# Altium footprint library TPS259460ARPWR_TPS2590.PcbLib: 1 footprints
Each footprint in its own frame and in the unit in brackets; x right, y up, seen from the top. Pads: shape width x height; smd on the part's side, far side on the other; paste and mask are expansions set on the pad; w line width, h text height; cw(c..) or ccw(c..) is an arc to the next point about the centre after c.
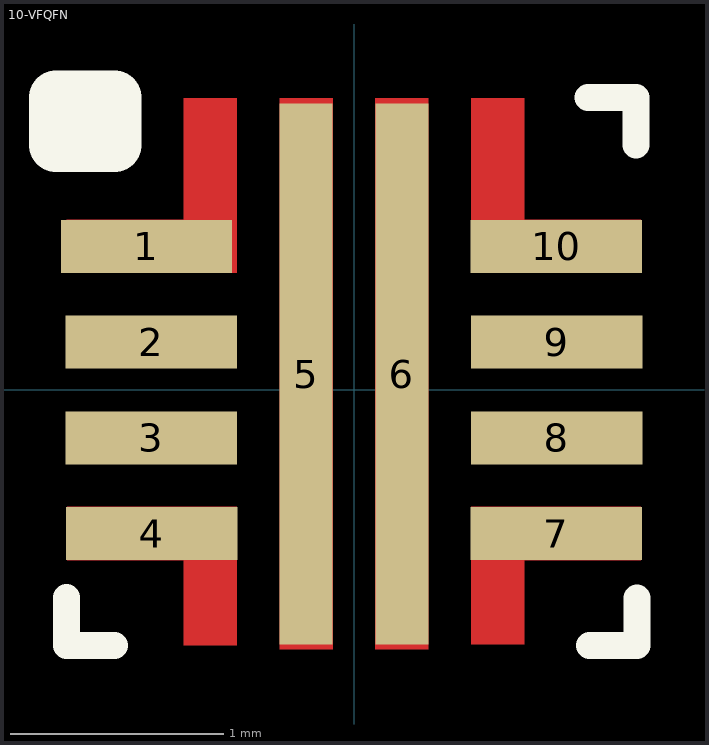
[diagram p0: the footprint, top view; thin cyan lines are the x and y axes]

## 10-VFQFN [mm]
pads (10):
  rect 0.805x0.249 smd paste+0 mask+0: 1(-0.975,0.675) 2(-0.952,0.225) 3(-0.952,-0.225) 4(-0.95,-0.675) 7(0.95,-0.675) 8(0.952,-0.225) 9(0.952,0.225) 10(0.95,0.675)
  rect 0.249x2.54 smd paste+0 mask+0: 5(-0.225,0.075) 6(0.225,0.075)
Top Layer:
  region: -0.8,0.799 -1.35,0.799 -1.35,0.55 -0.55,0.55 -0.55,1.372 -0.8,1.372
  region: -0.35,-1.219 -0.35,1.372 -0.1,1.372 -0.1,-1.219
  region: 0.8,-0.799 0.8,-1.194 0.55,-1.194 0.55,-0.55 1.346,-0.55 1.346,-0.799
  region: 1.346,0.55 1.346,0.799 0.8,0.799 0.8,1.372 0.55,1.372 0.55,0.55
  region: -0.8,-0.799 -0.8,-1.2 -0.55,-1.2 -0.55,-0.55 -1.346,-0.55 -1.346,-0.799
  region: 0.1,-1.219 0.1,1.372 0.35,1.372 0.35,-1.219
Top Overlay:
  lines w0.127: -1.35,-0.975 -1.35,-1.2 -1.125,-1.2 ; 1.1,1.375 1.325,1.375 1.325,1.15 ; 1.106,-1.202 1.331,-1.202 1.331,-0.977
  lines w0.254: -1.125,1.35 -1.125,1.15 -1.4,1.15 -1.4,1.375 -1.125,1.375
Top Solder:
  region: 0.55,-0.55 1.35,-0.55 1.35,-0.8 0.8,-0.8 0.8,-1.2 0.55,-1.2
  region: 0.55,1.375 0.8,1.375 0.8,0.8 1.35,0.8 1.35,0.55 0.55,0.55
  region: 0.1,1.375 0.35,1.375 0.35,-1.225 0.1,-1.225
  region: -0.35,1.375 -0.1,1.375 -0.1,-1.225 -0.35,-1.225
  region: -1.35,0.8 -0.8,0.8 -0.8,1.375 -0.55,1.375 -0.55,0.55 -1.35,0.55
  region: -1.35,-0.55 -0.55,-0.55 -0.55,-1.2 -0.8,-1.2 -0.8,-0.8 -1.35,-0.8
3D body "RPW0010A.stp": height 1, standoff 0, extent -0.975,-1.025 1.025,0.975